# Altium schematic symbol library TRANS_LIB.SchLib: 1 symbol
Pins are listed as number, name and electrical type; pins without a type are passive.

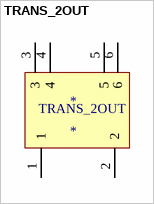
[diagram p0: symbol TRANS_2OUT]

## TRANS_2OUT
designator *
footprint TRANS_2OUT
pins: 1, 2, 3, 4, 5, 6